# EAGLE library part 805-106/000-012 (library con-wago_805)
Stand: 01.01.2014. Die jeweils aktuellen Daten zu diesem Artikel finden Sie in unserem Produktkatalog, den Sie unter www.wago.com einsehen können. As of: 01/01/2014. Please find the newest data for this article in our product catalogue, which can be viewed under www.wago.com.
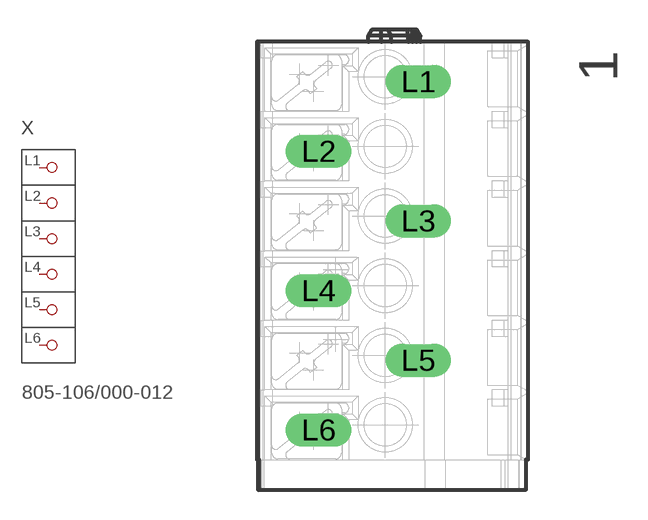
[diagram p76: symbol with the pads of P-805-106; footprint P-805-106]

Designator prefix X

## 805-106/000-012  [P-805-106]
L1  P1
L2  P2
L3  P3
L4  P4
L5  P5
L6  P6

## Footprint P-805-106 (pad centres in mm)
drill 1.1 long: L1 1.3,8.95; L2 -3.7,5.45; L3 1.3,1.95; L4 -3.7,-1.55; L5 1.3,-5.05; L6 -3.7,-8.55